# EAGLE library part TPS55010 (library wheat)
Isolated DCDC TPS55010
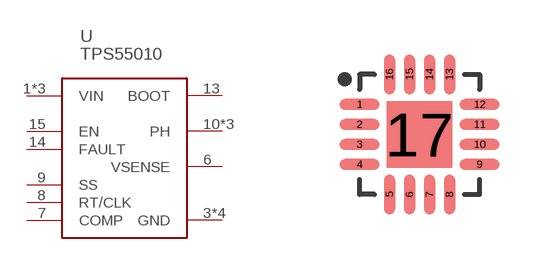
[diagram p239: symbol with the pads of WQFN16; footprint WQFN16]

Designator prefix U

## TPS55010RTE  [WQFN16]
1  VIN
2  VIN
3  GND
4  GND
5  GND
6  VSENSE
7  COMP
8  RT/CLK
9  SS
10  PH
11  PH
12  PH
13  BOOT
14  FAULT
15  EN
16  VIN
17  GND

## Footprint WQFN16 (pad centres in mm)
3x3 WQFN 16 (TI)
smd 1 x 0.28: 1 -1.5,0.75; 2 -1.5,0.25; 3 -1.5,-0.25; 4 -1.5,-0.75; 9 1.5,-0.75; 10 1.5,-0.25; 11 1.5,0.25; 12 1.5,0.75
smd 0.28 x 1: 5 -0.75,-1.5; 6 -0.25,-1.5; 7 0.25,-1.5; 8 0.75,-1.5; 13 0.75,1.5; 14 0.25,1.5; 15 -0.25,1.5; 16 -0.75,1.5
smd 1.65 x 1.65: 17 0,0